# EAGLE library part ADS1118 (library LinnesLab-DigitalIC)
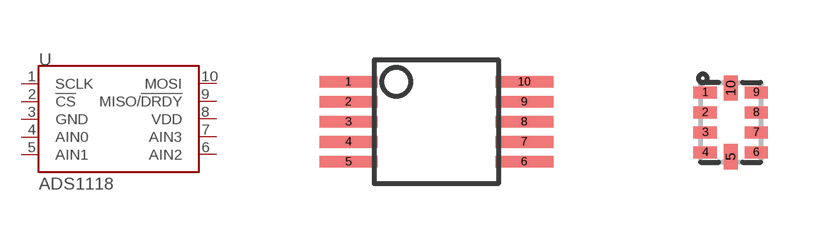
[diagram p18: symbol with the pads of 10-VSSOP; footprints 10-VSSOP, 10-X2QFN(2X1.5)]

Designator prefix U

## ADS1118-VSSOP  [10-VSSOP]
1  SCLK
2  !CS
3  GND
4  AIN0
5  AIN1
6  AIN2
7  AIN3
8  VDD
9  MISO/!DRDY
10  MOSI

## ADS1118-X2QFN  [10-X2QFN(2X1.5)]
Pads as for 10-VSSOP

## Footprint 10-VSSOP (pad centres in mm)
smd 1.45 x 0.3: 1 -2.2,1; 2 -2.2,0.5; 3 -2.2,0; 4 -2.2,-0.5; 5 -2.2,-1; 6 2.2,-1; 7 2.2,-0.5; 8 2.2,0; 9 2.2,0.5; 10 2.2,1

## Footprint 10-X2QFN(2X1.5) (pad centres in mm)
smd 0.58 x 0.3: 1 -0.64,0.75; 2 -0.64,0.25; 3 -0.64,-0.25; 4 -0.64,-0.75; 6 0.64,-0.75; 7 0.64,-0.25; 8 0.64,0.25; 9 0.64,0.75
smd 0.35 x 0.63: 5 0,-0.86; 10 0,0.86